# Altium schematic symbol library Chuong Engineer.SchLib: 32 symbols
Pins are listed as number, name and electrical type; pins without a type are passive.

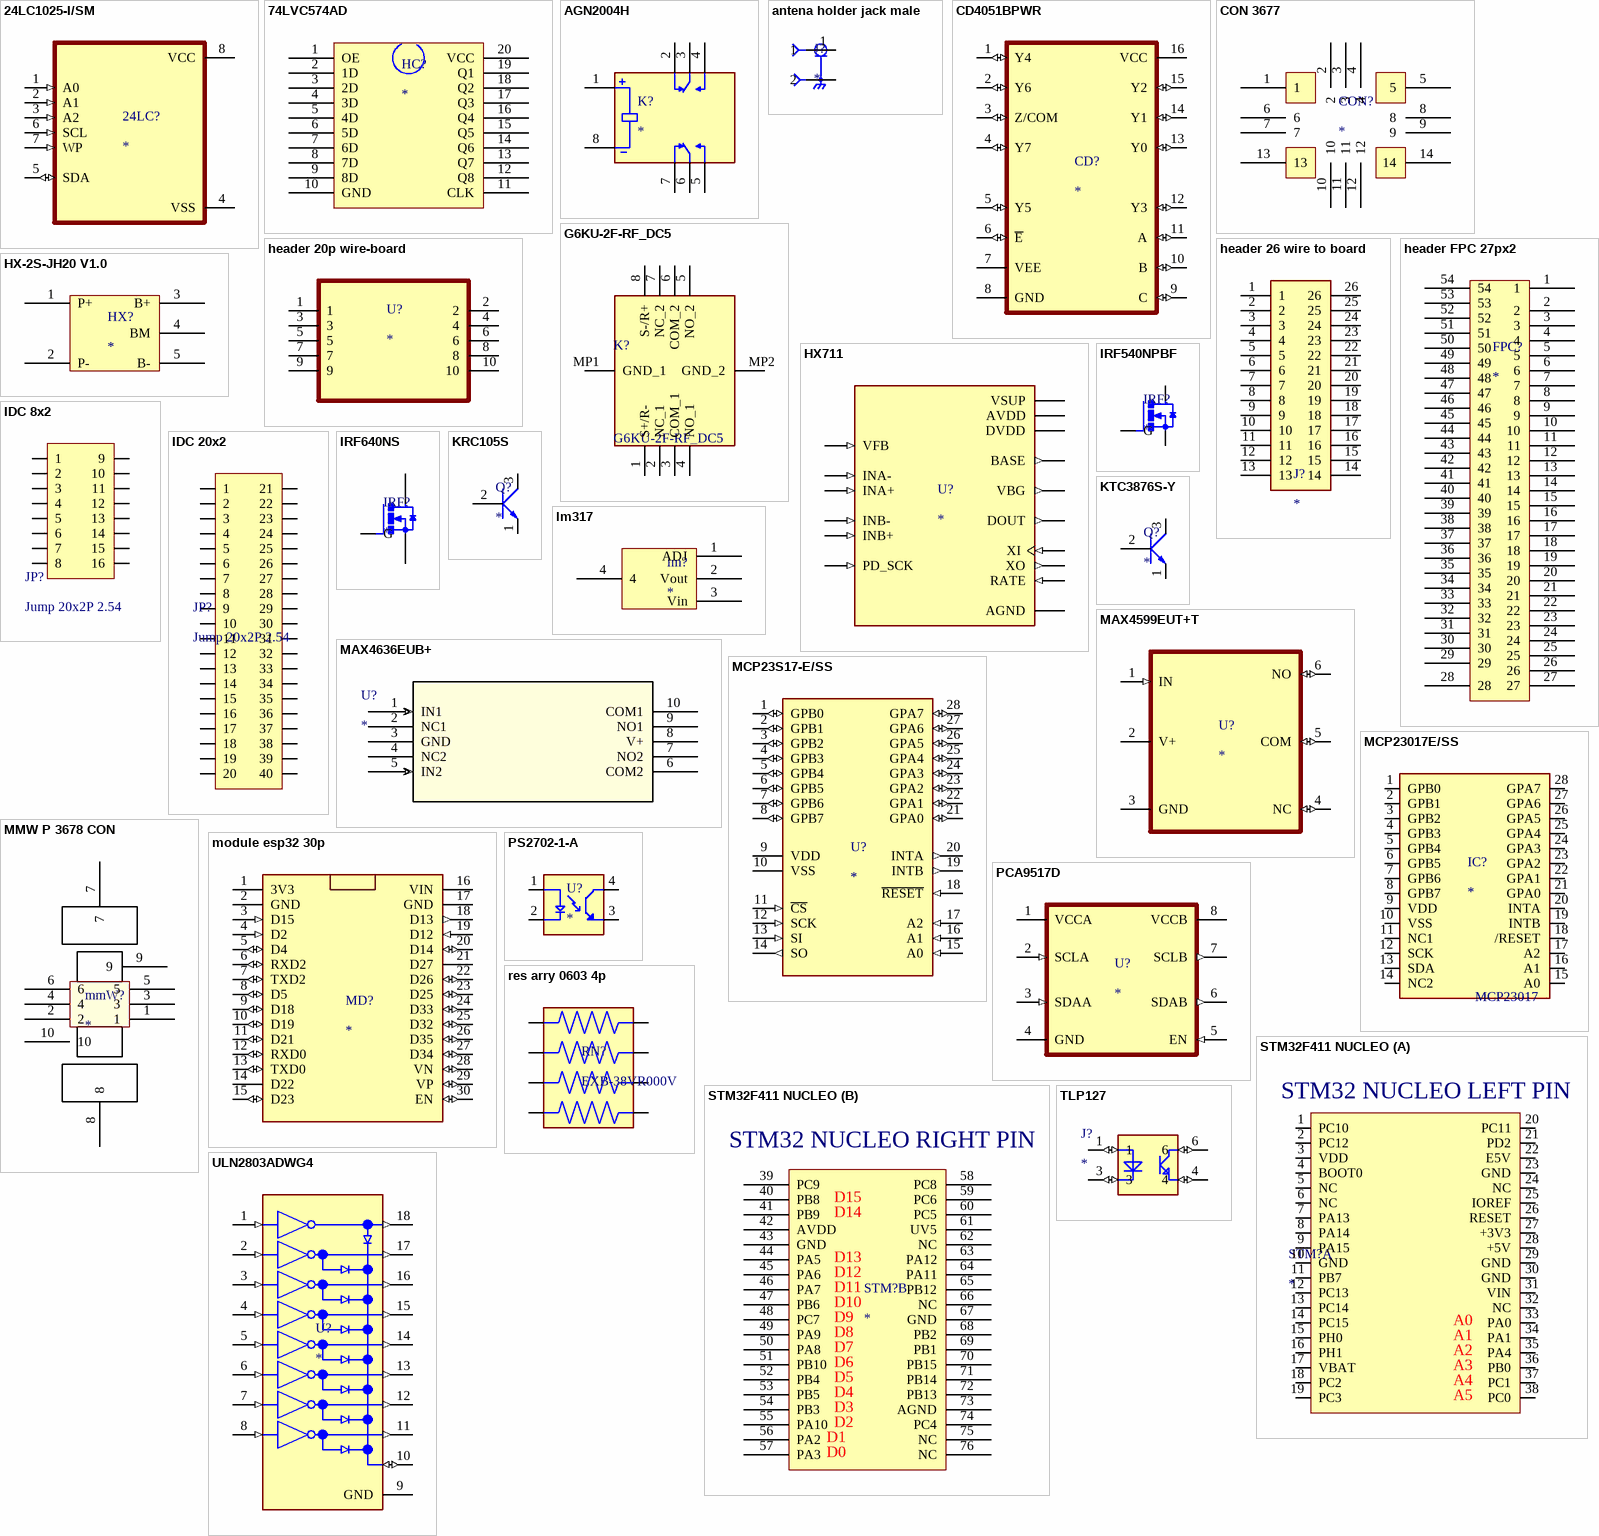
[diagram p0: symbols 24LC1025-I/SM to ULN2803ADWG4]

## 24LC1025-I/SM
designator 24LC?
EEPROM Memory IC 1Mb _128K x 8_ IÂ²C 400kHz 900ns 8-SOIJ; MP: 24LC1025-I/SM; MF: Microchip; Availability: Unavailable; SnapEDA_Link: https://www.snapeda.com/parts/24LC1025-I/SM/Microchip/view-part/138456/?ref=snap; Package: SOIC-8 Microchip; Value: *; Price: None
footprint SOIC127P794X202-8N
footprint DIP787W46P254L927H533Q8
pins: 1 A0 (in), 2 A1 (in), 3 A2 (in), 4 VSS (power), 5 SDA (io), 6 SCL (in), 7 WP (in), 8 VCC (power)

## 74LVC574AD
designator HC?
footprint SOIC127P1032X265-20N
pins: 1 OE, 2 1D, 3 2D, 4 3D, 5 4D, 6 5D, 7 6D, 8 7D, 9 8D, 10 GND, 11 CLK, 12 Q8, 13 Q7, 14 Q6, 15 Q5, 16 Q4, 17 Q3, 18 Q2, 19 Q1, 20 VCC

## AGN2004H
designator K?
Telecom Relay DPDT (2 Form C) Through Hole; MF: Panasonic Electric; MP: AGN2004H; Purchase-URL: https://pricing.snapeda.com/search/part/AGN2004H/?ref=eda; Check_prices: https://www.snapeda.com/parts/AGN2004H/Panasonic+Electric+Works/view-part/?ref=eda; Value: *; Price: None; Availability: In Stock; Package: None; SnapEDA_Link: https://www.snapeda.com/parts/AGN2004H/Panasonic+Electric+Works/view-part/?ref=snap
footprint RELAY_AGN2004H
pins: 1 COIL1, 2 NC1, 3 COM1, 4 NO1, 5 NO2, 6 COM2, 7 NC2, 8 COIL2

## antena holder jack male
designator J?
SMA Str PCB Skt GZD; MP: 5-1814832-1; Value: *; Package: None; Availability: Unavailable; Price: None
footprint TE_5-1814832-1
pins: 1, 2, 3 2, 4 2, 5 2

## CD4051BPWR
designator CD?
20-V, 8:1, 1-channel analog multiplexer with logic-level conversion 16-TSSOP -55 to 125; MP: CD4051BPWR; MF: Texas Instruments; Texas_Instruments-Purchase-URL: https://snapeda.com/shop?store=Texas+Instruments&id=506101; Package: TSSOP-16 Texas Instruments; DigiKey-Purchase-URL: https://snapeda.com/shop?store=DigiKey&id=506101; Mouser-Purchase-URL: https://snapeda.com/shop?store=Mouser&id=506101; Value: *; Availability: Good; Price: None; Arrow_Electronics-Purchase-URL: https://snapeda.com/shop?store=Arrow+Electronics&id=506101; SnapEDA_Link: https://www.snapeda.com/parts/CD4051BPWR/Texas%20Instruments/view-part/506101/?ref=snap
footprint SOP65P640X110-16N
pins: 1 Y4 (io), 2 Y6 (io), 3 Z/COM (io), 4 Y7 (io), 5 Y5 (io), 6 ~{E} (io), 7 VEE (power), 8 GND (power), 9 C (io), 10 B (io), 11 A (io), 12 Y3 (io), 13 Y0 (io), 14 Y1 (io), 15 Y2 (io), 16 VCC (power)

## CON 3677
designator CON?
footprint CON 3677
pins: 1, 2, 3, 4, 5, 6, 7, 8, 9, 10, 11, 12, 13, 14

## G6KU-2F-RF_DC5
designator K?
High Frequency / RF Relays 1GHz Std Grd 1Coil DPDT 5VDC 100mW; Manufacturer_Name: Omron Electronics; Manufacturer_Part_Number: G6KU-2F-RF DC5; Geometry.Height: 5.7mm; Mouser Part Number: 653-G6KU-2F-RFDC5; Mouser Price/Stock: https://www.mouser.co.uk/ProductDetail/Omron-Electronics/G6KU-2F-RF-DC5?qs=PlsTXiR3SnjImPGTIqGg%252Bw%3D%3D; Arrow Part Number: *; Arrow Price/Stock: *; Datasheet Link: http://omronfs.omron.com/en_US/ecb/products/pdf/en-g6k_2f_rf.pdf
footprint G6KU2FRFDC5
pins: 1 S+/R-, 2 NC_1, 3 COM_1, 4 NO_1, 5 NO_2, 6 COM_2, 7 NC_2, 8 S-/R+, MP1 GND_1, MP2 GND_2

## header 20p wire-board
designator U?
WIRE-BOARD CONNECTOR, HEADER, 10 POSITION, 2.54MM; Connector Systems:Wire-to-Board; Pitch Spacing:2.54mm; No. of Rows:2Rows; No. of Contacts:10Contacts; Contact Termination Type:Through Hole Straight; Product Range:AMP-LATCH Series RoHS Compliant: Yes; MF: TE Connectivity; MP: 5499910-1.; SnapEDA_Link: https://www.snapeda.com/parts/5499910-1./IAC/view-part/?ref=snap; Package: None; Value: *; Check_prices: https://www.snapeda.com/parts/5499910-1./IAC/view-part/?ref=eda
footprint TYCO_5499910-1
pins: 1, 2, 3, 4, 5, 6, 7, 8, 9, 10

## header 26 wire to board
designator J?
Header, Universal Ejection Pin, Amp-Latch, 26 Pos, 2.54 x 2.54, Pcb, Vertical; MP: 5499206-6; Number_of_Positions: 26; Product_Type: Connector; MF: TE Connectivity; Centerline_Pitch: 2.54 mm[.1 in]; Check_prices: https://www.snapeda.com/parts/5499206-6/TE+Connectivity/view-part/?ref=eda; Value: *; Purchase-URL: https://pricing.snapeda.com/search/part/5499206-6/?ref=eda; SnapEDA_Link: https://www.snapeda.com/parts/5499206-6/TE+Connectivity/view-part/?ref=snap; Package: None; Digi-Key_Part_Number: AHK26B-ND; EU_RoHS_Compliance: Compliant
footprint TE_5499206-6
pins: 1, 2, 3, 4, 5, 6, 7, 8, 9, 10, 11, 12, 13, 14, 15, 16, 17, 18, 19, 20, 21, 22, 23, 24, 25, 26

## header FPC 27px2
designator FPC?
footprint header FPC 27p
pins: 1, 2, 3, 4, 5, 6, 7, 8, 9, 10, 11, 12, 13, 14, 15, 16, 17, 18, 19, 20, 21, 22, 23, 24, 25, 26, 27, 28, 29, 30, 31, 32, 33, 34, 35, 36, 37, 38, 39, 40, 41, 42, 43, 44, 45, 46, 47, 48, 49, 50, 51, 52, 53, 54

## HX711
designator U?
Precision 24-bit analog-to-digital converter (ADC) designed for weigh scales and industrial control applications to interface directly with a bridge sensor.; MP: HX711; MF: AVIA SEMICONDUCTOR; Value: *; Availability: Not in stock; Package: None; SnapEDA_Link: https://www.snapeda.com/parts/HX711/AVIA+SEMICONDUCTOR/view-part/?ref=snap; Price: None; Check_prices: https://www.snapeda.com/parts/HX711/AVIA+SEMICONDUCTOR/view-part/?ref=eda
footprint SOP127P600X180-16N
pins: 1 VSUP (power), 2 BASE (out), 3 AVDD (power), 4 VFB (in), 5 AGND (power), 6 VBG (out), 7 INA- (in), 8 INA+ (in), 9 INB- (in), 10 INB+ (in), 11 PD_SCK (in), 12 DOUT (out), 13 XO (out), 14 XI (in), 15 RATE (in), 16 DVDD (power)

## HX-2S-JH20 V1.0
designator HX?
footprint HX-2S-JH20 V1.0
pins: 1 P+, 2 P-, 3 B+, 4 BM, 5 B-

## IDC 8x2
designator JP?, comment Jump 20x2P 2.54
Jump 8x2P 2.54
footprint IDC 8x2
pins: 1, 2, 3, 4, 5, 6, 7, 8, 9, 10, 11, 12, 13, 14, 15, 16

## IDC 20x2
designator JP?, comment Jump 20x2P 2.54
footprint IDC 20x2
pins: 1, 2, 3, 4, 5, 6, 7, 8, 9, 10, 11, 12, 13, 14, 15, 16, 17, 18, 19, 20, 21, 22, 23, 24, 25, 26, 27, 28, 29, 30, 31, 32, 33, 34, 35, 36, 37, 38, 39, 40

## IRF540NPBF
designator IRF?
RoHS Compliant | Low RDS_on_ | Industry-leading quality | Dynamic dv/dt Rating | Fast Switching | Fully Avalanche Rated | 175C Operating Temperature; MP: IRF540NPBF; MF: Infineon; Value: *; Package: TO-220 Infineon; Price: None; Availability: Unavailable; SnapEDA_Link: https://www.snapeda.com/parts/IRF540NPBF/Infineon%20Technologies/view-part/1644188/?ref=snap
footprint TRANS_CSD19506KTT
pins: 1 G, 2 D, 3 S

## IRF640NS
designator IRF?
RoHS Compliant | Low RDS_on_ | Industry-leading quality | Dynamic dv/dt Rating | Fast Switching | Fully Avalanche Rated | 175C Operating Temperature; MP: IRF540NPBF; MF: Infineon; Value: *; Package: TO-220 Infineon; Price: None; Availability: Unavailable; SnapEDA_Link: https://www.snapeda.com/parts/IRF540NPBF/Infineon%20Technologies/view-part/1644188/?ref=snap
footprint TO254P1524X483-4N
pins: 1 G, 2 D, 3 S

## KRC105S
designator Q?
footprint SOT23-KRC105S (SOT 23 _ 1-3-2)
pins: 1 E, 2 B, 3 C

## KTC3876S-Y
designator Q?
footprint SOT23 (SOT 23 _ 1-3-2)
pins: 1 E, 2 B, 3 C

## lm317
designator lm?
footprint LM317S
pins: 1 ADJ, 2 Vout, 3 Vin, 4

## MAX4599EUT+T
designator U?
Low-Voltage, Single-Supply, SPDT Analog Switch in SC70; MF: Analog Devices; MP: MAX4599EUT+T; SnapEDA_Link: https://www.snapeda.com/parts/MAX4599EUT+T/Analog+Devices/view-part/?ref=snap; Availability: In Stock; Price: None; Package: SOT-23-6 Maxim Integrated; Check_prices: https://www.snapeda.com/parts/MAX4599EUT+T/Analog+Devices/view-part/?ref=eda; Purchase-URL: https://pricing.snapeda.com/search/part/MAX4599EUT+T/?ref=eda; Value: *
footprint SOT95P280X145-6N
pins: 1 IN (in), 2 V+ (power), 3 GND (power), 4 NC (io), 5 COM (io), 6 NO (io)

## MAX4636EUB+
designator U?
No Description Available; Mfr_Name: Analog Devices Inc; RefDes: RefDes; Type: Type
footprint MAX4636
pins: 1 IN1 (in), 2 NC1, 3 GND (power), 4 NC2, 5 IN2 (in), 6 COM2, 7 NO2, 8 V+ (power), 9 NO1, 10 COM1

## MCP23S17-E/SS
designator U?
I/O Expander 16 SPI 10MHz 28-SSOP; MP: MCP23S17-E/SS; MF: Microchip; Price: None; Package: SSOP-28 Microchip; Value: *; Availability: Unavailable; SnapEDA_Link: https://www.snapeda.com/parts/MCP23S17-E/SS/Microchip/view-part/43651/?ref=snap
footprint SOP65P780X200-28N
pins: 1 GPB0 (io), 2 GPB1 (io), 3 GPB2 (io), 4 GPB3 (io), 5 GPB4 (io), 6 GPB5 (io), 7 GPB6 (io), 8 GPB7 (io), 9 VDD (power), 10 VSS (power), 11 ~{CS} (in), 12 SCK (in), 13 SI (in), 14 SO (out), 15 A0 (in), 16 A1 (in), 17 A2 (in), 18 ~{RESET} (in), 19 INTB (out), 20 INTA (out), 21 GPA0 (io), 22 GPA1 (io), 23 GPA2 (io), 24 GPA3 (io), 25 GPA4 (io), 26 GPA5 (io), 27 GPA6 (io), 28 GPA7 (io)

## MCP23017E/SS
designator IC?
I/O Expander 16 IÂ²C 10MHz 28-SSOP; MF: Microchip Technology; MP: MCP23017-E/SS; Package: SSOP-28 Microchip; Price: None; Availability: In Stock; Check_prices: https://www.snapeda.com/parts/MCP23017-E/SS/Microchip/view-part/5532973/?ref=eda; SnapEDA_Link: https://www.snapeda.com/parts/MCP23017-E/SS/Microchip/view-part/5532973/?ref=snap; Value: *
footprint SSOP28
pins: 1 GPB0 (io), 2 GPB1 (io), 3 GPB2 (io), 4 GPB3 (io), 5 GPB4 (io), 6 GPB5 (io), 7 GPB6 (io), 8 GPB7 (io), 9 VDD (io), 10 VSS (io), 11 NC1 (io), 12 SCK (io), 13 SDA (io), 14 NC2 (io), 15 A0 (io), 16 A1 (io), 17 A2 (io), 18 /RESET (io), 19 INTB (io), 20 INTA (io), 21 GPA0 (io), 22 GPA1 (io), 23 GPA2 (io), 24 GPA3 (io), 25 GPA4 (io), 26 GPA5 (io), 27 GPA6 (io), 28 GPA7 (io)
text: MCP23017

## MMW P 3678 CON
designator mmW?
pins: 1, 2, 3, 4, 5, 6, 7, 8, 9, 10

## module esp32 30p
designator MD?
footprint module esp32 30 pin
pins: 1 3V3 (power), 2 GND (power), 3 D15 (in), 4 D2 (in), 5 D4 (io), 6 RXD2 (io), 7 TXD2 (io), 8 D5 (io), 9 D18 (io), 10 D19 (io), 11 D21 (io), 12 RXD0 (io), 13 TXD0 (io), 14 D22 (power), 15 D23 (io), 16 VIN (power), 17 GND (power), 18 D13 (out), 19 D12 (in), 20 D14 (io), 21 D27 (power), 22 D26 (io), 23 D25 (io), 24 D33 (io), 25 D32 (io), 26 D35 (io), 27 D34 (io), 28 VN (io), 29 VP (io), 30 EN (io)

## PCA9517D
designator U?
Level-translating I2C bus repeater 8-SOIC -40 to 85; MF: Texas Instruments; MP: PCA9517D; Value: *; Price: None; Package: SOIC-8 Texas Instruments; Check_prices: https://www.snapeda.com/parts/PCA9517D/Texas%20Instruments/view-part/306427/?ref=eda; Availability: Good; SnapEDA_Link: https://www.snapeda.com/parts/PCA9517D/Texas%20Instruments/view-part/306427/?ref=snap; Purchase-URL: https://pricing.snapeda.com/search/part/PCA9517D/?ref=eda
footprint SOIC127P599X175-8N
pins: 1 VCCA (power), 2 SCLA (in), 3 SDAA (in), 4 GND (power), 5 EN (in), 6 SDAB (out), 7 SCLB (out), 8 VCCB (power)

## PS2702-1-A
designator U?
Optoisolator Transistor Output 5000Vrms 1 Channel 4-DIP; MP: PC817X1CSZ9F; MF: SHARP/Socle Technology; SnapEDA_Link: https://www.snapeda.com/parts/PC817X1CSZ9F/SHARP%252FSocle+Technology/view-part/?ref=snap; Availability: In Stock; Value: *; Price: None; Package: DIP-4 SHARP/Socle Technology; Check_prices: https://www.snapeda.com/parts/PC817X1CSZ9F/SHARP%252FSocle+Technology/view-part/?ref=eda
footprint SOP254P700X230-4N
pins: 1 A, 2 C, 3 ET, 4 CT

## res arry 0603 4p
designator RN?, comment EXB-38VR000V
0.0 Ohm Jumper 62.5mW Power Per Element Isolated Resistor Network/Array 1206 (3216 Metric), Convex, Long Side Terminals; MF: Panasonic; Purchase-URL: https://pricing.snapeda.com/search/part/EXB-38VR000V/?ref=eda; MP: EXB-38VR000V; Package: 1206 Panasonic; SnapEDA_Link: https://www.snapeda.com/parts/EXB-38VR000V/Panasonic%20Electronic%20Components/view-part/383133/?ref=snap; Value: *; Check_prices: https://www.snapeda.com/parts/EXB-38VR000V/Panasonic%20Electronic%20Components/view-part/383133/?ref=eda
footprint RESCAXS80P320X160X60-8N
pins: 1, 2, 3, 4, 5, 6, 7, 8

## STM32F411 NUCLEO
designator STM?
footprint stm32 NUCLEO
part A pins: 1 PC10, 2 PC12, 3 VDD, 4 BOOT0, 5 NC, 6 NC, 7 PA13, 8 PA14, 9 PA15, 10 GND, 11 PB7, 12 PC13, 13 PC14, 14 PC15, 15 PH0, 16 PH1, 17 VBAT, 18 PC2, 19 PC3, 20 PC11, 21 PD2, 22 E5V, 23 GND, 24 NC, 25 IOREF, 26 RESET, 27 +3V3, 28 +5V, 29 GND, 30 GND, 31 VIN, 32 NC, 33 PA0, 34 PA1, 35 PA4, 36 PB0, 37 PC1, 38 PC0
part B pins: 39 PC9, 40 PB8, 41 PB9, 42 AVDD, 43 GND, 44 PA5, 45 PA6, 46 PA7, 47 PB6, 48 PC7, 49 PA9, 50 PA8, 51 PB10, 52 PB4, 53 PB5, 54 PB3, 55 PA10, 56 PA2, 57 PA3, 58 PC8, 59 PC6, 60 PC5, 61 UV5, 62 NC, 63 PA12, 64 PA11, 65 PB12, 66 NC, 67 GND, 68 PB2, 69 PB1, 70 PB15, 71 PB14, 72 PB13, 73 AGND, 74 PC4, 75 NC, 76 NC
part A text: STM32 NUCLEO LEFT PIN; A0; A1; A2; A3; A4; A5
part B text: STM32 NUCLEO RIGHT PIN; D15; D14; D13; D12; D11; D10; D9; D8; D7; D6; D5; D4; D3; D2; D1; D0

## TLP127
designator J?
Optoisolator Darlington Output 2500Vrms 1 Channel 6-MFSOP, 4 Lead; MF: Toshiba Semiconductor; MP: TLP127; Package: SMD-6 Toshiba Semiconductor and Storage; Price: None; Value: *; SnapEDA_Link: https://www.snapeda.com/parts/TLP127/Toshiba+Semiconductor+and+Storage/view-part/?ref=snap; Availability: In Stock; Check_prices: https://www.snapeda.com/parts/TLP127/Toshiba+Semiconductor+and+Storage/view-part/?ref=eda
footprint MFSOP6
pins: 1 (io), 3 (io), 4 (io), 6 (io)

## ULN2803ADWG4
designator U?
50-V, 8-ch darlington array; MP: ULN2803ADWG4; Price: None; Package: None; Availability: Unavailable; Value: *
footprint SOIC127P1030X265-18N
pins: 1 1B (in), 2 2B (in), 3 3B (in), 4 4B (in), 5 5B (in), 6 6B (in), 7 7B (in), 8 8B (in), 9 GND (power), 10 COM (io), 11 8C (out), 12 7C (out), 13 6C (out), 14 5C (out), 15 4C (out), 16 3C (out), 17 2C (out), 18 1C (out)

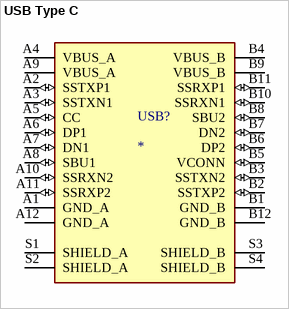
[diagram p1: symbol USB Type C]

## USB Type C
designator USB?
USB-C _USB TYPE-C_ USB 3.1 _USB 3.1 Gen 2, Superspeed+_ Plug Connector 24 Position Board Edge, Straddle Mount; MP: 632712000112; MF: Wurth Electronics; Package: None; Value: *; SnapEDA_Link: https://www.snapeda.com/parts/632712000112/Wurth%20Electronics%20Inc./view-part/3664018/?ref=snap; Digi-Key_Purchase_URL: https://www.digikey.tw/product-detail/en/w-rth-elektronik/632712000112/732-13725-ND/10056408?utm_source=snapeda&utm_medium=aggregator&utm_campaign=symbol; Digi-Key_Part_Number: 732-13725-ND
footprint usb type c
pins: A1 GND_A (power), A2 SSTXP1 (io), A3 SSTXN1 (io), A4 VBUS_A (power), A5 CC (io), A6 DP1 (io), A7 DN1 (io), A8 SBU1 (io), A9 VBUS_A (power), A10 SSRXN2 (io), A11 SSRXP2 (io), A12 GND_A (power), B1 GND_B (power), B2 SSTXP2 (io), B3 SSTXN2 (io), B4 VBUS_B (power), B5 VCONN (io), B6 DP2 (io), B7 DN2 (io), B8 SBU2 (io), B9 VBUS_B (power), B10 SSRXN1 (io), B11 SSRXP1 (io), B12 GND_B (power), S1 SHIELD_A, S2 SHIELD_A, S3 SHIELD_B, S4 SHIELD_B